# Altium footprint library ECU_pcb_lib.PcbLib: 36 footprints (part 1 of 3)
Each footprint in its own frame and in the unit in brackets; x right, y up, seen from the top. Pads: shape width x height; smd on the part's side, far side on the other; paste and mask are expansions set on the pad; w line width, h text height; cw(c..) or ccw(c..) is an arc to the next point about the centre after c.
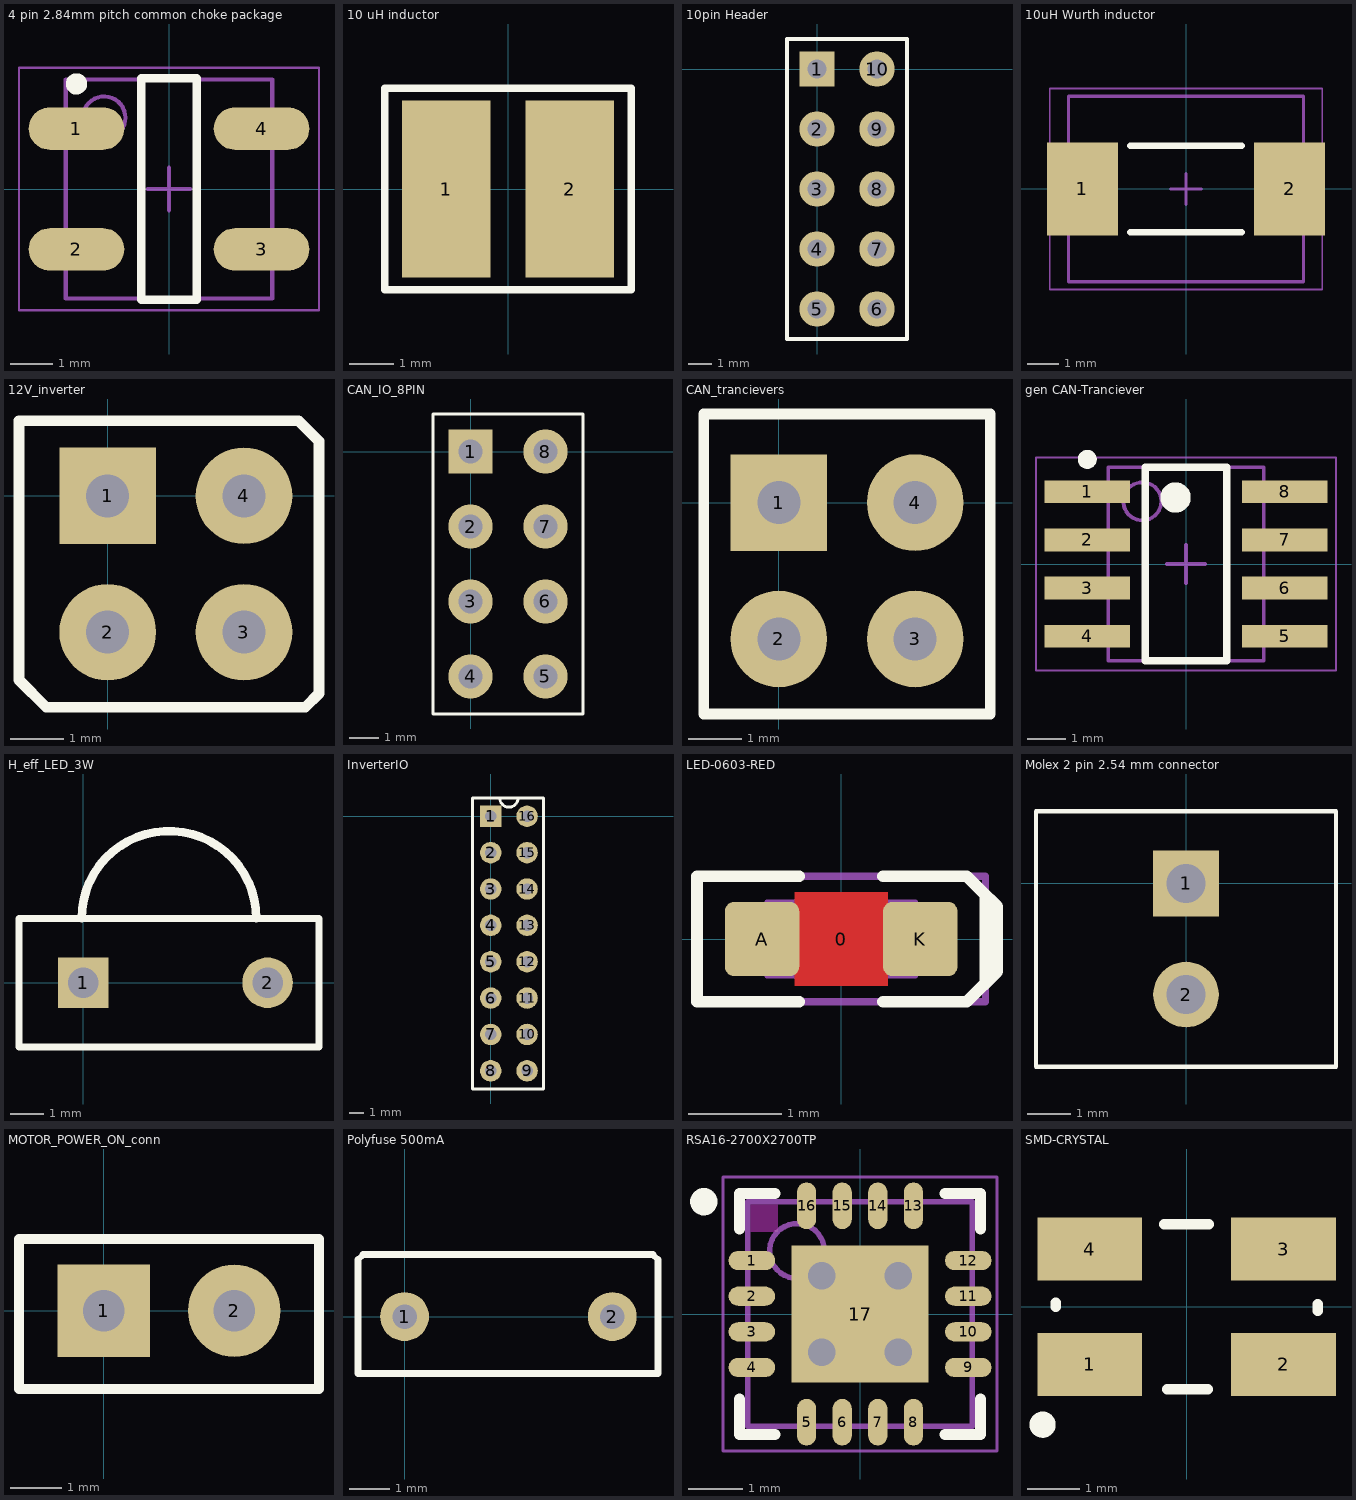
[diagram p0: the footprints below, top view; thin cyan lines are the x and y axes]

## 4 pin 2.84mm pitch common choke package [mm] "SOJ, 4-Leads, Body 5,15x5,60mm, Pitch 2,84mm, IPC Medium Density"
height 2.85
pads (4):
  oval 2.25x1 smd: 1(-2.175,1.42) 2(-2.175,-1.42) 3(2.175,-1.42) 4(2.175,1.42)
Top Overlay:
  circle w0.25: c-2.175,2.47 r0.125
  lines w0.2: -0.65,-2.6 -0.65,2.6 0.65,2.6 0.65,-2.6 -0.65,-2.6
Mechanical 13:
  circle w0.1: c-1.525,1.675 r0.5
  lines w0.1: -2.425,-2.575 -2.425,2.575 2.425,2.575 2.425,-2.575 -2.425,-2.575
Mechanical 15:
  lines w0.05: -3.525,-2.85 -3.525,2.85 3.525,2.85 3.525,-2.85 -3.525,-2.85
  lines w0.1: -0.5,0 0.5,0 ; 0,-0.5 0,0.5
3D body: height 2.85, standoff 0.43, extent -2.425,-2.575 2.425,2.575

## 10 uH inductor [mm]
pads (2):
  rect 2x4 smd: 1(-1.397,0) 2(1.397,0)
Top Overlay:
  lines w0.17: -2.794,-2.286 -2.794,2.286 2.794,2.286 2.794,-2.286 -2.794,-2.286

## 10pin Header [mm]
pads (10):
  rect 1.5x1.5 hole 0.8: 1(0,0)
  round 1.5 hole 0.8: 2(0,-2.54) 3(0,-5.08) 4(0,-7.62) 5(0,-10.16) 6(2.54,-10.16) 7(2.54,-7.62) 8(2.54,-5.08) 9(2.54,-2.54) 10(2.54,0)
Top Overlay:
  lines w0.15: -1.27,-11.43 3.81,-11.43 3.81,1.27 -1.27,1.27 -1.27,-11.43
3D body: height 10.02, standoff -1.98, extent -1.27,-11.43 3.81,1.27

## 10uH Wurth inductor [mm] "10uH shielded inductor from wurth, for power supply"
height 3.8
pads (2):
  rect 2.3x3 smd: 1(-3.35,0) 2(3.35,0)
Top Overlay:
  lines w0.2: -1.8,-1.4 1.8,-1.4 ; -1.8,1.4 1.8,1.4
Mechanical 13:
  lines w0.1: -3.8,-3 -3.8,3 3.8,3 3.8,-3 -3.8,-3
Mechanical 15:
  lines w0.05: -4.4,-3.25 -4.4,3.25 4.4,3.25 4.4,-3.25 -4.4,-3.25
  lines w0.1: -0.5,0 0.5,0 ; 0,-0.5 0,0.5
3D body: height 7.15, standoff -0.05, extent -4.2,-4.064 4.2,3.836

## 12V_inverter [mm]
pads (4):
  rect 1.8x1.8 hole 0.8: 1(0,0)
  round 1.8 hole 0.8: 2(0,-2.54) 3(2.54,-2.54) 4(2.54,0)
Top Overlay:
  lines w0.2: -1.651,-3.429 -1.651,1.397 3.556,1.397 3.937,1.016 3.937,-3.683 3.683,-3.937 -1.143,-3.937 -1.651,-3.429
3D body: height 10.02, standoff -1.98, extent -1.27,-3.81 3.81,1.27

## CAN_IO_8PIN [mm]
pads (8):
  rect 1.5x1.5 hole 0.8: 1(0,0)
  round 1.5 hole 0.8: 2(0,-2.54) 3(0,-5.08) 4(0,-7.62) 5(2.54,-7.62) 6(2.54,-5.08) 7(2.54,-2.54) 8(2.54,0)
Top Overlay:
  lines w0.1: -1.27,-8.89 3.81,-8.89 3.81,1.27 -1.27,1.27 -1.27,-8.89
3D body: height 10.02, standoff -1.98, extent -1.266,-3.86 3.814,1.22
3D body: height 10.02, standoff -1.98, extent -1.27,-8.89 3.81,-3.81

## CAN_trancievers [mm]
pads (4):
  rect 1.8x1.8 hole 0.8: 1(0,0)
  round 1.8 hole 0.8: 2(0,-2.54) 3(2.54,-2.54) 4(2.54,0)
Top Overlay:
  lines w0.2: -1.397,-3.937 3.937,-3.937 3.937,1.651 -1.397,1.651 -1.397,-3.937
3D body: height 10.02, standoff -1.98, extent -1.27,-3.81 3.81,1.27

## gen CAN-Tranciever [mm] "SOIC, 8-Leads, Body 5,00x4,00mm, Pitch 1,27mm, IPC Medium Density"
height 1.75
pads (8):
  rect 2.25x0.6 smd: 1(-2.6,1.905) 2(-2.6,0.635) 3(-2.6,-0.635) 4(-2.6,-1.905) 5(2.6,-1.905) 6(2.6,-0.635) 7(2.6,0.635) 8(2.6,1.905)
Top Overlay:
  circle w0.4: c-0.275,1.75 r0.2
  circle w0.25: c-2.6,2.755 r0.125
  lines w0.2: -1.075,-2.55 1.075,-2.55 1.075,2.55 -1.075,2.55 -1.075,-2.55
Mechanical 13:
  circle w0.1: c-1.15,1.65 r0.5
  lines w0.1: -2.05,-2.55 2.05,-2.55 2.05,2.55 -2.05,2.55 -2.05,-2.55
Mechanical 15:
  lines w0.05: -3.95,-2.8 3.95,-2.8 3.95,2.8 -3.95,2.8 -3.95,-2.8
  lines w0.1: -0.5,0 0.5,0 ; 0,-0.5 0,0.5
3D body: height 1.75, standoff 0.25, extent -2.05,-2.55 2.05,2.55

## H_eff_LED_3W [mm]
pads (2):
  rect 1.5x1.5 hole 0.9: 1(0,0)
  round 1.5 hole 0.9: 2(5.461,0)
Top Overlay:
  lines w0.2: -1.905,-1.905 -1.905,1.905 6.985,1.905 6.985,-1.905 -1.905,-1.905
  lines w0.254: -0.05,1.905 cw(c2.54,1.905) 5.13,1.905
3D body: height 20.05, standoff -3.5, extent -2.15,-0.38 7.65,8.19

## InverterIO [mm]
pads (16):
  rect 1.5x1.5 hole 0.8: 1(0,0)
  round 1.5 hole 0.8: 2(0,-2.54) 3(0,-5.08) 4(0,-7.62) 5(0,-10.16) 6(0,-12.7) 7(0,-15.24) 8(0,-17.78) 9(2.54,-17.78) 10(2.54,-15.24) 11(2.54,-12.7) 12(2.54,-10.16) 13(2.54,-7.62) 14(2.54,-5.08) 15(2.54,-2.54) 16(2.54,0)
Top Overlay:
  lines w0.2: 0.635,1.27 ccw(c1.27,1.27) 1.905,1.27 ; 1.105,1.27 3.683,1.27 3.683,-19.05 -1.27,-19.05 -1.27,1.27 1.435,1.27
3D body: height 2.9, standoff -10.9, extent -3.683,-20.22 6.067,2.44

## LED-0603-RED [mm]
height 0.8
pads (3):
  round 0.254 on Mech14: 0(0,0)
  rrect25% 0.8x0.8 smd: A(-0.85,0) K(0.85,0)
Top Layer:
  pour cut-out: -0.5,0.5 0.5,0.5 0.5,-0.5 -0.5,-0.5
Top Overlay:
  lines w0.127: -0.45,-0.675 -1.55,-0.675 -1.55,0.675 -0.45,0.675 ; 0.45,-0.675 1.35,-0.675 1.55,-0.475 1.55,0.475 1.35,0.675 0.45,0.675 ; 1.5,0.525 1.675,0.35 1.675,-0.35 1.525,-0.5
Mechanical 13:
  lines w0.05: -0.6,-0.4 -0.6,0.399 0.6,0.4 0.6,-0.4 -0.6,-0.399 ; -0.505,-0.398 -0.505,0.398 ; -0.5,-0.4 -0.8,-0.4 -0.8,0.4 -0.5,0.4 ; 0.5,-0.4 0.8,-0.4 0.8,0.4 0.5,0.4 ; 0.505,-0.398 0.505,0.398 ; -0.599,-0.398 0.599,-0.398 0.599,0.398 -0.599,0.398 -0.599,-0.398
Mechanical 14:
  lines w0.076: -1.55,-0.675 -1.55,0.675 1.55,0.675 1.55,-0.675 -1.55,-0.675
3D body: height 0.75, standoff 0, extent -0.8,-0.4 0.8,0.4

## Molex 2 pin 2.54 mm connector [mm]
pads (2):
  rect 1.5x1.5 hole 0.9: 1(0,0)
  round 1.5 hole 0.9: 2(0,-2.54)
Top Overlay:
  lines w0.1: -3.429,-4.191 3.429,-4.191 3.429,1.651 -3.429,1.651 -3.429,-4.191
3D body: height 10.92, standoff -2.88, extent -3.605,-5.485 3.605,2.945

## MOTOR_POWER_ON_conn [mm]
pads (2):
  rect 1.8x1.8 hole 0.8: 1(0,0)
  round 1.8 hole 0.8: 2(2.54,0)
Top Overlay:
  lines w0.2: -1.651,-1.524 -1.651,1.397 4.191,1.397 4.191,-1.524 -1.651,-1.524
3D body: height 10.02, standoff -1.98, extent -1.27,-1.27 3.81,1.27

## Polyfuse 500mA [mm]
pads (2):
  round 1.2 hole 0.6: 1(0,0) 2(5.1,0)
Top Overlay:
  lines w0.15: -1.143,1.397 -1.016,1.524 ; 6.096,1.524 6.223,1.397
  lines w0.17: -1.143,1.397 -1.143,-1.397 6.223,-1.397 6.223,1.397 ; -1.016,1.524 6.096,1.524
3D body: height 12.72, standoff 0.02, extent -1.16,-1.476 6.24,1.524

## RSA16-2700X2700TP [mm] "QFN, 16-Leads, Body 4x4mm, Pitch 0.65mm, Thermal Pad 2.7x2.7mm, TI Recommended"
height 1
pads (17):
  oval 0.85x0.35 smd paste-0.025 mask+0.07: 1(-1.975,0.975) 2(-1.975,0.325) 3(-1.975,-0.325) 4(-1.975,-0.975) 9(1.975,-0.975) 10(1.975,-0.325) 11(1.975,0.325) 12(1.975,0.975)
  oval 0.35x0.85 smd paste-0.025 mask+0.07: 5(-0.975,-1.975) 6(-0.325,-1.975) 7(0.325,-1.975) 8(0.975,-1.975) 13(0.975,1.975) 14(0.325,1.975) 15(-0.325,1.975) 16(-0.975,1.975)
  rect 2.5x2.5 smd paste-1.35 mask+0.07: 17(0,0)
via 0.7,-0.7 diameter 1 hole 0.5
via -0.7,0.7 diameter 1 hole 0.5
via -0.7,-0.7 diameter 1 hole 0.5
via 0.7,0.7 diameter 1 hole 0.5
Top Layer keep-out:
  rectangle: -2,1.5 -1.5,2
Top Overlay:
  circle w0.25: c-2.85,2.05 r0.125
  lines w0.2: -2.2,-1.55 -2.2,-2.2 -1.55,-2.2 ; -2.2,1.55 -2.2,2.2 -1.55,2.2 ; 1.55,-2.2 2.2,-2.2 2.2,-1.55 ; 1.55,2.2 2.2,2.2 2.2,1.55
Top Paste:
  region: 0.15,-0.15 0.15,-1.25 1.25,-1.25 1.25,-0.15
  region: -0.15,-0.15 -1.25,-0.15 -1.25,-1.25 -0.15,-1.25
  region: -0.15,0.15 -0.15,1.25 -1.25,1.25 -1.25,0.15
  rectangle: 0.15,0.15 1.25,1.25
Mechanical 13:
  circle w0.1: c-1.15,1.15 r0.5
  lines w0.1: -2.05,-2.05 -2.05,2.05 2.05,2.05 2.05,-2.05 -2.05,-2.05
Mechanical 15:
  lines w0.05: -2.5,-2.5 -2.5,2.5 2.5,2.5 2.5,-2.5 -2.5,-2.5
  lines w0.1: -0.5,0 0.5,0 ; 0,-0.5 0,0.5
3D body: height 1, standoff 0, extent -2.05,-2.05 2.05,2.05

## SMD-CRYSTAL [mm] "Quartz Crystal, SM; Body 5.0x 3.2 mm (LxW)"
height 1
pads (4):
  rect 2x1.2 smd: 1(-1.85,-1.1) 2(1.85,-1.1) 3(1.85,1.1) 4(-1.85,1.1)
Top Overlay:
  circle w0.25: c-2.75,-2.25 r0.125
  lines w0.2: -2.5,0 -2.5,0.075 ; -0.425,1.575 0.425,1.575 ; -0.375,-1.575 0.4,-1.575 ; 2.5,-0.075 2.5,0.05
3D body: height 1, standoff 0, extent -2.6,-1.7 2.6,1.7